# Altium schematic symbol library Nixie.SCHLIB: 55 symbols
Pins are listed as number, name and electrical type; pins without a type are passive.

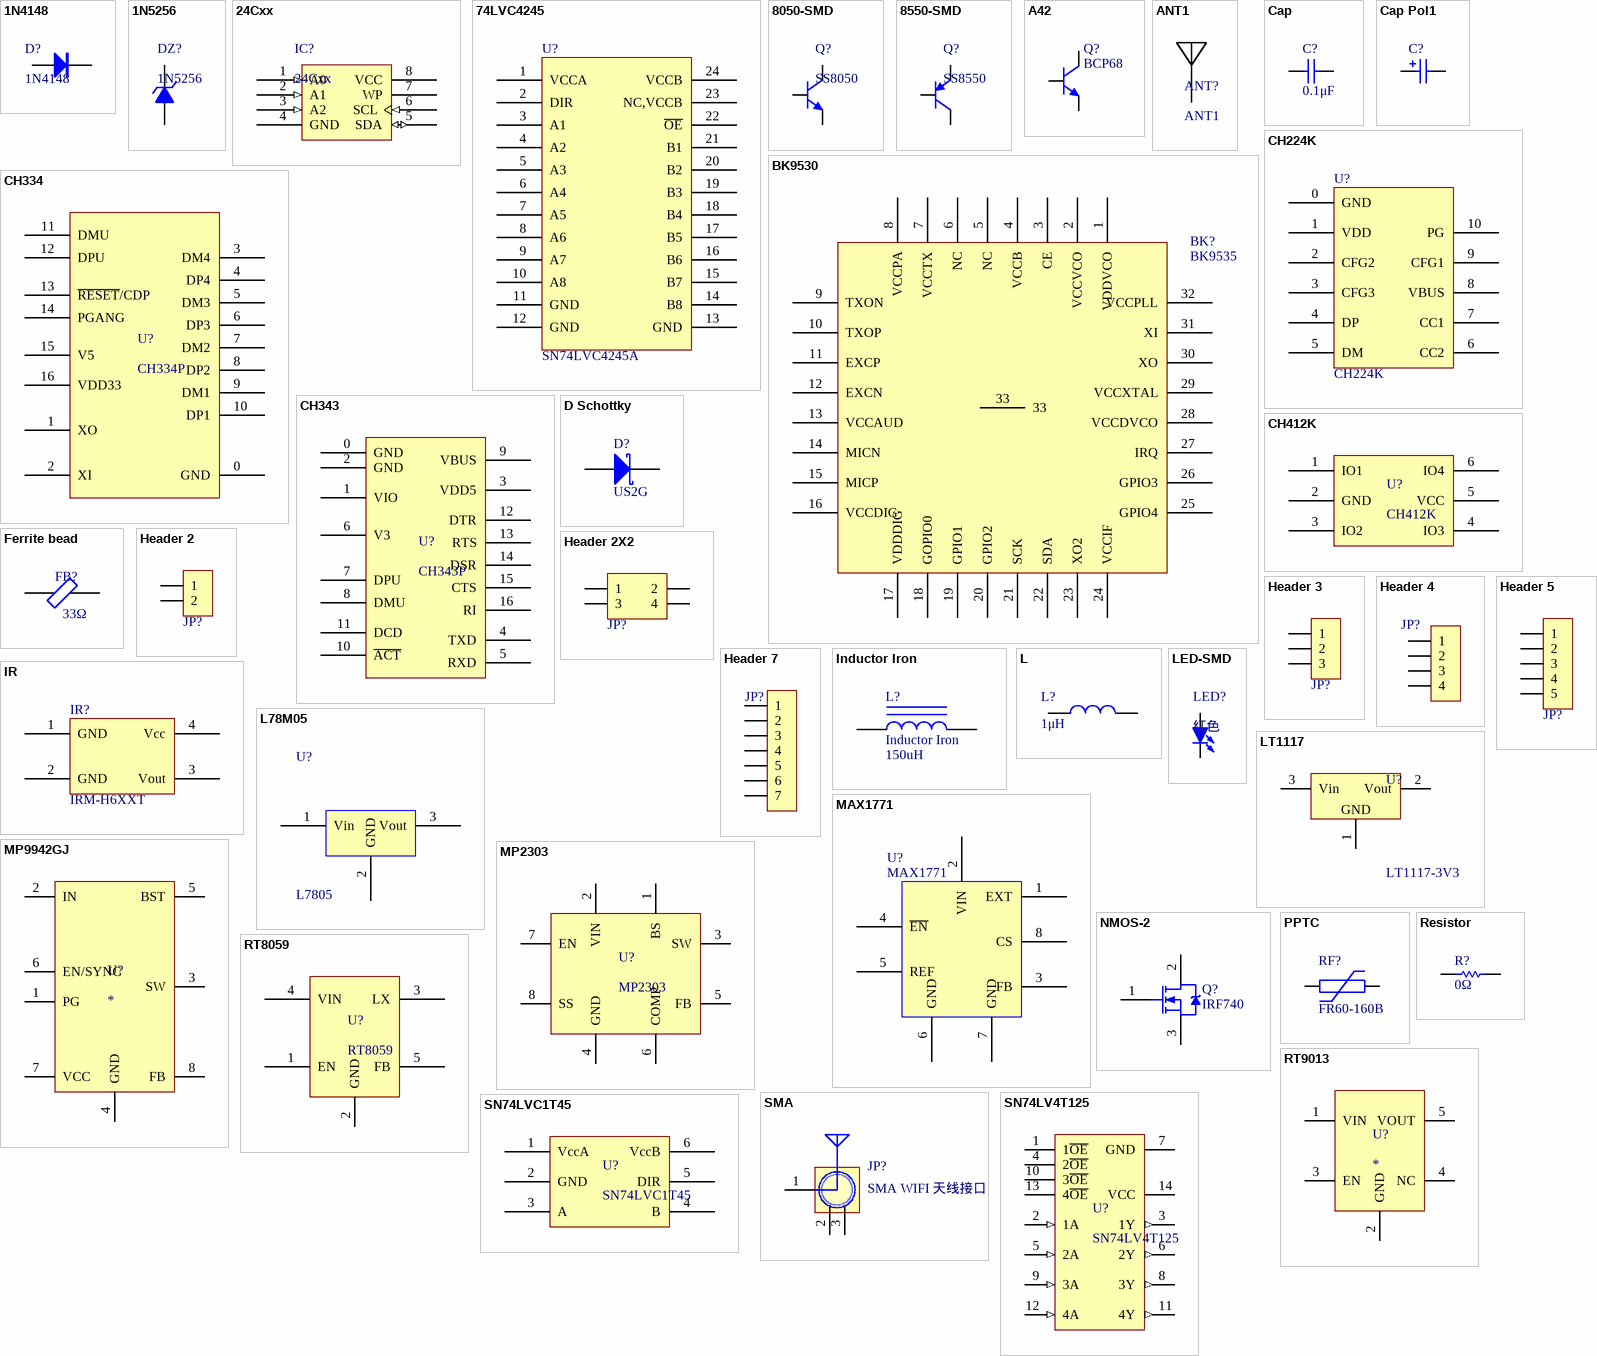
[diagram p0: symbols 1N4148 to SN74LVC1T45]

## 1N4148
designator D?
开关二极管; BOM名称: 高速开关二极管; 淘宝ID: 封装库来自淘宝 ID：黄晶宝石; 欢迎光临: https://shop463601444.taobao.com
footprint DO-35 (1.8*6.8mm(直径，脚距）)
footprint MINI_MELF (LL34) (1.5*3.4mm(直径，脚距）)
footprint SOD-323 (1.8x1.3X0.9mm（长宽高，不包括引脚）)
footprint DO-35V (1.8*2.5mm(直径，脚距）)
pins: 1 A, 2 K

## 1N5256
designator DZ?
30V/0.5W稳压管; 版权归属: 封装库来自淘宝 ID：黄晶宝石; BOM名称: 30V/0.5W稳压管; 学习资源: www.ooocke.com
footprint DO-35 (1.8*6.8mm(直径，脚距）)
footprint DO-213AA (1.5*3.5mm(直径，脚距）)
footprint DO-35V (1.8*2.5mm(直径，脚距）)
footprint LL-34
pins: 1 A, 2 K

## 24Cxx
designator IC?
外置EEPROM; 版权归属: 封装库来自淘宝 ID：黄晶宝石; BOM名称: 外置EEPROM; 唯一出售店铺网址: https://shop463601444.taobao.com
footprint SOP8_L (5*6*1.8mm（长宽高）)
footprint SOP8_N (5*6*1.8mm（长宽高）)
footprint SOP8_M (5*6*1.8mm（长宽高）)
pins: 1 A0 (in), 2 A1 (in), 3 A2 (in), 4 GND, 5 SDA (io), 6 SCL (in), 7 WP, 8 VCC (power)

## 74LVC4245
designator U?, comment SN74LVC4245A
双向电平转换
footprint TSSOP24_L (7.8*6.4*1mm（长宽高） 封装库来自淘宝卖家 ID：黄晶宝石)
pins: 1 VCCA, 2 DIR, 3 A1, 4 A2, 5 A3, 6 A4, 7 A5, 8 A6, 9 A7, 10 A8, 11 GND, 12 GND, 13 GND, 14 B8, 15 B7, 16 B6, 17 B5, 18 B4, 19 B3, 20 B2, 21 B1, 22 ~{OE}, 23 NC,VCCB, 24 VCCB

## 8050-SMD
designator Q?, comment SS8050
高频放大-NPN型; 版权归属: 封装库来自淘宝 ID：黄晶宝石; 属性: 40V 1.5A 1W 100MHZ; BOM名称: 高频放大-NPN型; 联系售后: https://shop463601444.taobao.com
footprint SOT23-3N (3x1.3x1mm(长宽高))
footprint SOT23-3L (3x1.3x1mm(长宽高))
footprint SOT23-3M (3x1.3x1mm(长宽高))
pins: 1 B, 2 E, 3 C

## 8550-SMD
designator Q?, comment SS8550
高频放大-PNP型; 版权归属: 封装库来自淘宝 ID：黄晶宝石; 属性: 40V 1.5A 1W 100MHZ; BOM名称: 高频放大-PNP型; 学习资源: www.ooocke.com
footprint SOT23-3N (3x1.3x1mm(长宽高))
footprint SOT23-3L (3x1.3x1mm(长宽高))
footprint SOT23-3M (3x1.3x1mm(长宽高))
pins: 1 B, 2 E, 3 C

## A42
designator Q?, comment BCP68
NPN高压三极管; Published: 17-Sep-2003; LatestRevisionDate: 12-Dec-2006; LatestRevisionNote: IPC-7351 Footprint Added.; DatasheetVersion: 8-Apr-1999; PackageVersion: Aug-2001; PackageReference: SOT223; Publisher: Altium Limited; PackageDescription: 4-Pin SOT-223 Package 2.3 mm Pitch, 7 mm Lead Span; ComponentLink1Description: Manufacturer Link; ComponentLink1URL: http://www.semiconductors.philips.com/; ComponentLink2Description: Datasheet; ComponentLink2URL: http://www.semiconductors.philips.com/acrobat/datasheets/BCP68_4.pdf
footprint SOT23-3L (3x1.3x1mm(长宽高)    封装库来自淘宝卖家 ID：黄晶宝石)
pins: 1 B, 2 E, 3 C

## ANT1
designator ANT?
PCB板载天线; 版权归属: 封装库来自淘宝 ID：黄晶宝石; BOM名称: PCB板载天线; 技术支持，联系售后: https://shop463601444.taobao.com
footprint 2.4GANTF0
footprint 2.4GANTF1
footprint 2.4GANTF2
footprint 2.4GANTF3
footprint 2.4GANTF4
footprint 2.4GANTS0
footprint 2.4GANTS8
footprint 2.4GANTS9
footprint WIFI-ANT
pins: 1

## BK9530
designator BK?, comment BK9535
footprint QFN32 5x5_L (32脚，长x宽x高：5x5x0.95mm，脚距：0.5mm)
footprint QFN32 5x5_M (32脚，长x宽x高：5x5x0.95mm，脚距：0.5mm)
footprint QFN32 5x5_N (32脚，长x宽x高：5x5x0.95mm，脚距：0.5mm)
pins: 1 VDDVCO, 2 VCCVCO, 3 CE, 4 VCCB, 5 NC, 6 NC, 7 VCCTX, 8 VCCPA, 9 TXON, 10 TXOP, 11 EXCP, 12 EXCN, 13 VCCAUD, 14 MICN, 15 MICP, 16 VCCDIG, 17 VDDDIG, 18 GOPIO0, 19 GPIO1, 20 GPIO2, 21 SCK, 22 SDA, 23 XO2, 24 VCCIF, 25 GPIO4, 26 GPIO3, 27 IRQ, 28 VCCDVCO, 29 VCCXTAL, 30 XO, 31 XI, 32 VCCPLL, 33

## Cap
designator C?  value 0.1μF  (hidden comment: Cap)
Capacitor; Published: 8-Jun-2000; LatestRevisionDate: 17-Jul-2002; LatestRevisionNote: Re-released for DXP Platform.; PackageReference: RAD-0.3; Publisher: Altium Limited; PackageDescription: Radial Cap, Thru-Hole; 2 Leads; 0.3 in Pin Spacing
footprint C 0805_L (无极性贴片电容                                        淘宝ID:黄晶宝石)
footprint C 0603_L (无极性贴片电容                                       淘宝ID:黄晶宝石)
footprint C 1206_L (无极性贴片电容)
footprint C 1210_L (无极性贴片电容                                淘宝ID:黄晶宝石)
pins: 1, 2

## Cap Pol1
designator C?  (value not drawn)
Polarized Capacitor (Radial); Published: 8-Jun-2000; LatestRevisionDate: 17-Jul-2002; LatestRevisionNote: Re-released for DXP Platform.; PackageReference: RB7.6-15; Publisher: Altium Limited
footprint CD C(6032) (长6.0mm，宽3.2mm，厚2.5mm      淘宝ID:黄晶宝石)
footprint CM B(4*5.4) (贴片电解电容，直径4mm，高5.4mm          淘宝ID:黄晶宝石)
footprint CD B(3528) (长3.5mm，宽2.8mm，厚1.9mm      淘宝ID:黄晶宝石)
footprint CM C(5*5.4) (贴片电解电容，直径5mm，高5.4mm            淘宝ID:黄晶宝石)
footprint CM D(6.3*7.7) (贴片电解电容，直径6.3mm，高7.7mm         淘宝ID:黄晶宝石)
footprint CM E(8*10.2) (贴片电解电容，直径8mm，高10.2mm)
footprint CM F(10*10.2) (贴片电解电容，直径10mm，高10.2mm)
pins: 1, 2
1 alternate drawing of the same symbol

## CH224K
designator U?
PD协议受电芯片
footprint ESSOP10 (ESSOP3.9mm)
pins: 0 GND, 1 VDD, 2 CFG2, 3 CFG3, 4 DP, 5 DM, 6 CC2, 7 CC1, 8 VBUS, 9 CFG1, 10 PG

## CH334
designator U?, comment CH334P
4路usb_hub
footprint QFN16 (3mm*3mm 封装库来自淘宝卖家 ID：黄晶宝石)
pins: 0 GND, 1 XO, 2 XI, 3 DM4, 4 DP4, 5 DM3, 6 DP3, 7 DM2, 8 DP2, 9 DM1, 10 DP1, 11 DMU, 12 DPU, 13 ~{RESET}/CDP, 14 PGANG, 15 V5, 16 VDD33

## CH343
designator U?, comment CH343P
USB转串口
footprint QFN16 (3mm*3mm 封装库来自淘宝卖家 ID：黄晶宝石)
pins: 0 GND, 1 VIO, 2 GND, 3 VDD5, 4 TXD, 5 RXD, 6 V3, 7 DPU, 8 DMU, 9 VBUS, 10 ~{ACT}, 11 DCD, 12 DTR, 13 RTS, 14 DSR, 15 CTS, 16 RI

## CH412K
designator U?
四路ESD保护
footprint SOT-363
pins: 1 IO1, 2 GND, 3 IO2, 4 IO3, 5 VCC, 6 IO4

## D Schottky
designator D?, comment US2G
Schottky Diode; Published: 8-Jun-2000; LatestRevisionDate: 17-Jul-2002; LatestRevisionNote: Re-released for DXP Platform.; PackageReference: SMB; Publisher: Altium Limited; PackageDescription: DO-214-AA/SMB; 2 C-Bend Leads; Body 5.3 x 3.6 mm, inc. leads (LxW); Code_JEDEC: DO-214-AA
simulation model SKYDIODE (Diode)
signal-integrity model D Schottky
footprint SMA (4.5x2.6*2.2mm（长宽高，不包括引脚）)
pins: 1 A, 2 K

## Ferrite bead
designator FB?  value 33Ω  (hidden comment: *)
铁氧体磁珠
footprint C 0805_L (无极性贴片电容                                        淘宝ID:黄晶宝石)
footprint C 0603_L (无极性贴片电容                                       淘宝ID:黄晶宝石)
footprint C 1206_L (无极性贴片电容)
pins: 1, 2

## Header 2
designator JP?, comment HDR-1X2  (value not drawn)
2P接插件; 版权归属: 封装库来自淘宝 ID：黄晶宝石; BOM名称: 2P接插件; 联系售后: https://shop463601444.taobao.com
footprint HDR2.54-LI-2P (排针，2脚)
footprint HDR2.54-M-LI-2P (排母，2脚)
footprint HDR2.54-WI-2P (弯脚排针，2脚)
footprint HDR2.54-WS-2P (2P卧式贴片排针2.54)
footprint HDR2.54-Y-LI-2P (圆孔排母，2脚)
footprint HDR2.54-M-WS-2P (2P卧式贴片排母2.54)
pins: 1, 2

## Header 2X2
designator JP?, comment Header2X2  (value not drawn)
2*2P接插件; 版权归属: 封装库来自淘宝 ID：黄晶宝石; BOM名称: 2*2P接插件; 学习资源: https://shop463601444.taobao.com
footprint HDR2.54-LI-2x2P (双排排针，2x2脚)
footprint HDR2.54-M-LS-2x2P (脚距：2.54mm，贴片双排母)
footprint HDR2.54-WI-2x2P (双排弯脚排针，2x2脚)
pins: 1, 2, 3, 4

## Header 3
designator JP?, comment HDR-1X3  (value not drawn)
3P接插件; 版权归属: 封装库来自淘宝 ID：黄晶宝石; BOM名称: 3P接插件; 学习资源: https://shop463601444.taobao.com
footprint HDR2.54-LI-3P (排针，3脚)
pins: 1, 2, 3

## Header 4
designator JP?, comment HDR-1X4  (value not drawn)
4P接插件; 版权归属: 封装库来自淘宝 ID：黄晶宝石; BOM名称: 4P接插件; 学习资源: https://shop463601444.taobao.com
footprint XH2.54-WI-4P (接插件，4P)
footprint XH2.54-LI-4P (接插件，4P)
footprint HDR2.54-LI-4P (排针，4脚)
footprint HDR2.54-M-LI-4P (排母，4脚)
footprint HDR2.54-WI-4P (弯脚排针，4脚)
footprint HDR2.54-WS-4P (4P卧式贴片排针2.54)
footprint HDR2.54-Y-LI-4P (圆孔排母，4脚)
footprint HDR2.54-M-WS-4P (4P卧式贴片排母2.54)
footprint KF2510-LI-4P (接插件/2A)
footprint XH2.54-WS-4P (长：15mm，宽：8mm，高：6.1mm)
footprint XH2.54-LS-4P (长：15mm，宽：6mm，高：8.3mm)
footprint KF2EDGK-2.54-LI-4P (长：12.06mm，宽：8.1mm，高：10.1mm)
footprint KF2EDGK-2.54-WI-4P (长：12.06mm，宽：10.1mm，高：8.1mm)
pins: 1, 2, 3, 4

## Header 5
designator JP?, comment HDR-1X5  (value not drawn)
5P接插件; 版权归属: 封装库来自淘宝 ID：黄晶宝石; BOM名称: 5P接插件; 学习资源: https://shop463601444.taobao.com
footprint HDR2.54-LI-5P (排针，5脚)
footprint HDR2.54-M-LI-5P (排母，5脚)
footprint HDR2.54-WI-5P (弯脚排针，5脚)
footprint HDR2.54-WS-5P (5P卧式贴片排针2.54)
footprint HDR2.54-Y-LI-5P (圆孔排母，5脚)
footprint HDR2.54-M-WS-5P (5P卧式贴片排母2.54)
footprint XH2.54-LI-5P (接插件，5P  淘宝ID:黄晶宝石   店铺网址:https://shop463601444.taobao.com)
footprint HDR2.0-LI-5P (直插，脚距：2.0mm)
pins: 1, 2, 3, 4, 5

## Header 7
designator JP?, comment HDR-1X7  (value not drawn)
7P接插件; 版权归属: 封装库来自淘宝 ID：黄晶宝石; BOM名称: 7P接插件; 学习资源: https://shop463601444.taobao.com
footprint HDR2.54-LI-7P (排针，8脚)
pins: 1, 2, 3, 4, 5, 6, 7

## Inductor Iron
designator L?  value 150uH
Magnetic-Core Inductor; Published: 24-Mar-1999; LatestRevisionDate: 17-Jul-2002; LatestRevisionNote: Re-released for DXP Platform.; PackageReference: AXIAL-0.9; Publisher: Altium Limited; PackageDescription: Axial Device, Thru-Hole; 2 Leads; 0.9 in Pin Spacing
simulation model INDUCTOR (Inductor)
signal-integrity model Inductor Iron
footprint CDRH127 (12*12*8mm（长宽高）)
footprint CKST0603 (7.4*6.4*3mm（长宽高）)
pins: 1, 2

## IR
designator IR?, comment IRM-H6XXT
footprint SMD4_IR
pins: 1 GND, 2 GND, 3 Vout, 4 Vcc

## L
designator L?  value 1μH
小功率贴片电感; 淘宝ID: 封装库来自淘宝 ID：黄晶宝石; 封装库来自淘宝卖家 ID：黄晶宝石: 其他店铺购入均为盗版，不享受售后技术支持服务，请立即申请退款; BOM名称: 小功率贴片电感; 联系售后: https://shop463601444.taobao.com
footprint L 0402 (小功率贴片电感)
footprint L 0603 (小功率贴片电感)
footprint L 0805 (小功率贴片电感)
footprint L 1206 (小功率贴片电感)
footprint L 1210 (小功率贴片电感)
footprint L 1806 (小功率贴片电感)
footprint L 1812 (小功率贴片电感)
pins: 1, 2

## L78M05
designator U?, comment L7805
footprint TO-252-2L
pins: 1 Vin, 2 GND, 3 Vout

## LED-SMD
designator LED?, comment 红色
贴片LED; 版权归属: 封装库来自淘宝 ID：黄晶宝石; BOM名称: 贴片LED; 学习资源: https://shop463601444.taobao.com
footprint LED 0603W (白色0603LED)
footprint LED 0603R (红色0603LED)
footprint LED 0603B (蓝色0603LED)
footprint LED 0603G (绿色0603LED)
footprint LED 0603Y (黄色0603LED)
footprint LED 0805G (绿色0805LED)
footprint LED 0805R (红色0805LED)
footprint LED 0805B (蓝色0805LED)
footprint LED 0805Y (黄色0805LED)
footprint LED 3528-2Pin (2脚，3528LED)
footprint LED 1206G (绿色1206LED)
footprint LED 5730-V (紫色5730LED)
footprint LED 1206Y (黄色1206LED)
footprint LED 0805W (白色0805LED)
footprint LED 1206B (蓝色1206LED)
footprint LED 1206W (白色1206LED)
footprint LED 1206R (红色1206LED)
pins: 1 A, 2 K

## LT1117
designator U?, comment LT1117-3V3
三端稳压芯片; BOM名称: 稳压芯片; 版权归属: 源创客; 学习资源: www.ooocke.com
footprint SOT223_L (6.4x7x1.6mm(长宽高))
pins: 1 GND, 2 Vout, 3 Vin

## MAX1771
designator U?
footprint SOIC8
pins: 1 EXT, 2 VIN, 3 FB, 4 ~{EN}, 5 REF, 6 GND, 7 GND, 8 CS

## MP2303
designator U?
DC-DC降压芯片。4.75V-28V，3A
footprint SOIC8E
pins: 1 BS, 2 VIN, 3 SW, 4 GND, 5 FB, 6 COMP, 7 EN, 8 SS, 9 GND hidden

## MP9942GJ
designator U?
MP9942GJ 4.7V-36V 2A DCDC
footprint TSOT23-8
pins: 1 PG, 2 IN, 3 SW, 4 GND, 5 BST, 6 EN/SYNC, 7 VCC, 8 FB

## NMOS-2
designator Q?, comment IRF740
N-Channel Power MOSFET; Note: Pin 2 is electrically connected to pin 4.; Published: 8-Jun-2000; LatestRevisionDate: 17-Jul-2002; LatestRevisionNote: Re-released for DXP Platform.; DatasheetVersion: PD-9.814; PackageVersion: Feb-1997; PackageReference: TO-220AB; Publisher: Altium Limited; PackageDescription: TO, Thru-Hole, Vertical, Heatsink Mounted; 3 In-Line Leads; Pitch 2.54 mm; ComponentLink1Description: Manufacturer Link; ComponentLink1URL: http://www.irf.com/
footprint TO-263-2L
simulation model IRF1010 (Spice Subcircuit)
pins: 1 G, 2 D, 3 S

## PPTC
designator RF?, comment FR60-160B
PPTC自恢复保险丝; 版权归属: 封装库来自淘宝卖家 ID：黄晶宝石; BOM名称: PPTC自恢复保险丝; 学习资源: https://shop463601444.taobao.com
footprint FU 1206 (贴片保险丝)
pins: 1, 2

## Resistor
designator R?  value 0Ω  (hidden comment: Resistor)
Published: 8-Jun-2000; LatestRevisionDate: 17-Jul-2002; LatestRevisionNote: Re-released for DXP Platform.; PackageReference: AXIAL-0.5; Publisher: Altium Limited
footprint R 0805_L (1/8W贴片电阻)
footprint R 0603_L (1/10W贴片电阻                 淘宝ID:黄晶宝石)
footprint R 1206_L (1/4W贴片电阻)
footprint R 1210_L (1/3W贴片电阻                                淘宝ID:黄晶宝石)
pins: 1, 2

## RT8059
designator U?
DC-DC, 2.8-5.5V,1A
footprint SOT23-5L (3x1.6x1.1mm(长宽高) 封装库来自淘宝卖家 ID：黄晶宝石)
pins: 1 EN, 2 GND, 3 LX, 4 VIN, 5 FB

## RT9013
designator U?
LDO
footprint SOT23-5L (3x1.6x1.1mm(长宽高) 封装库来自淘宝卖家 ID：黄晶宝石)
pins: 1 VIN, 2 GND, 3 EN, 4 NC, 5 VOUT

## SMA
designator JP?, comment SMA WIFI 天线接口
SMA-2.4G射频天线接口; 版权归属: 封装库来自淘宝 ID：黄晶宝石; BOM名称: SMA-2.4G射频天线接口; 唯一出售店铺网址: https://shop463601444.taobao.com
footprint SMA_FR
footprint SMA-KE (Footprint not found)
footprint SMA-KE-LI (SMA 立式直插射频天线座)
footprint COAXIAL/SMD/CON/V/I-PEX/W08-5801 (https://shop463601444.taobao.com)
pins: 1 ANT, 2 GND, 3 GND

## SN74LV4T125
designator U?
单电源4路逻辑电平转换
footprint TSSOP14_L (5*6.4*1mm（长宽高）封装库来自淘宝卖家 ID：黄晶宝石)
pins: 1 1~{OE}, 2 1A (in), 3 1Y (out), 4 2~{OE}, 5 2A (in), 6 2Y (out), 7 GND, 8 3Y (out), 9 3A (in), 10 3~{OE}, 11 4Y (out), 12 4A (in), 13 4~{OE}, 14 VCC

## SN74LVC1T45
designator U?
单路逻辑电平转换
footprint SOT23-6L (3x1.6x1.1mm(长宽高) 封装库来自淘宝卖家 ID：黄晶宝石)
pins: 1 VccA, 2 GND, 3 A, 4 B, 5 DIR, 6 VccB

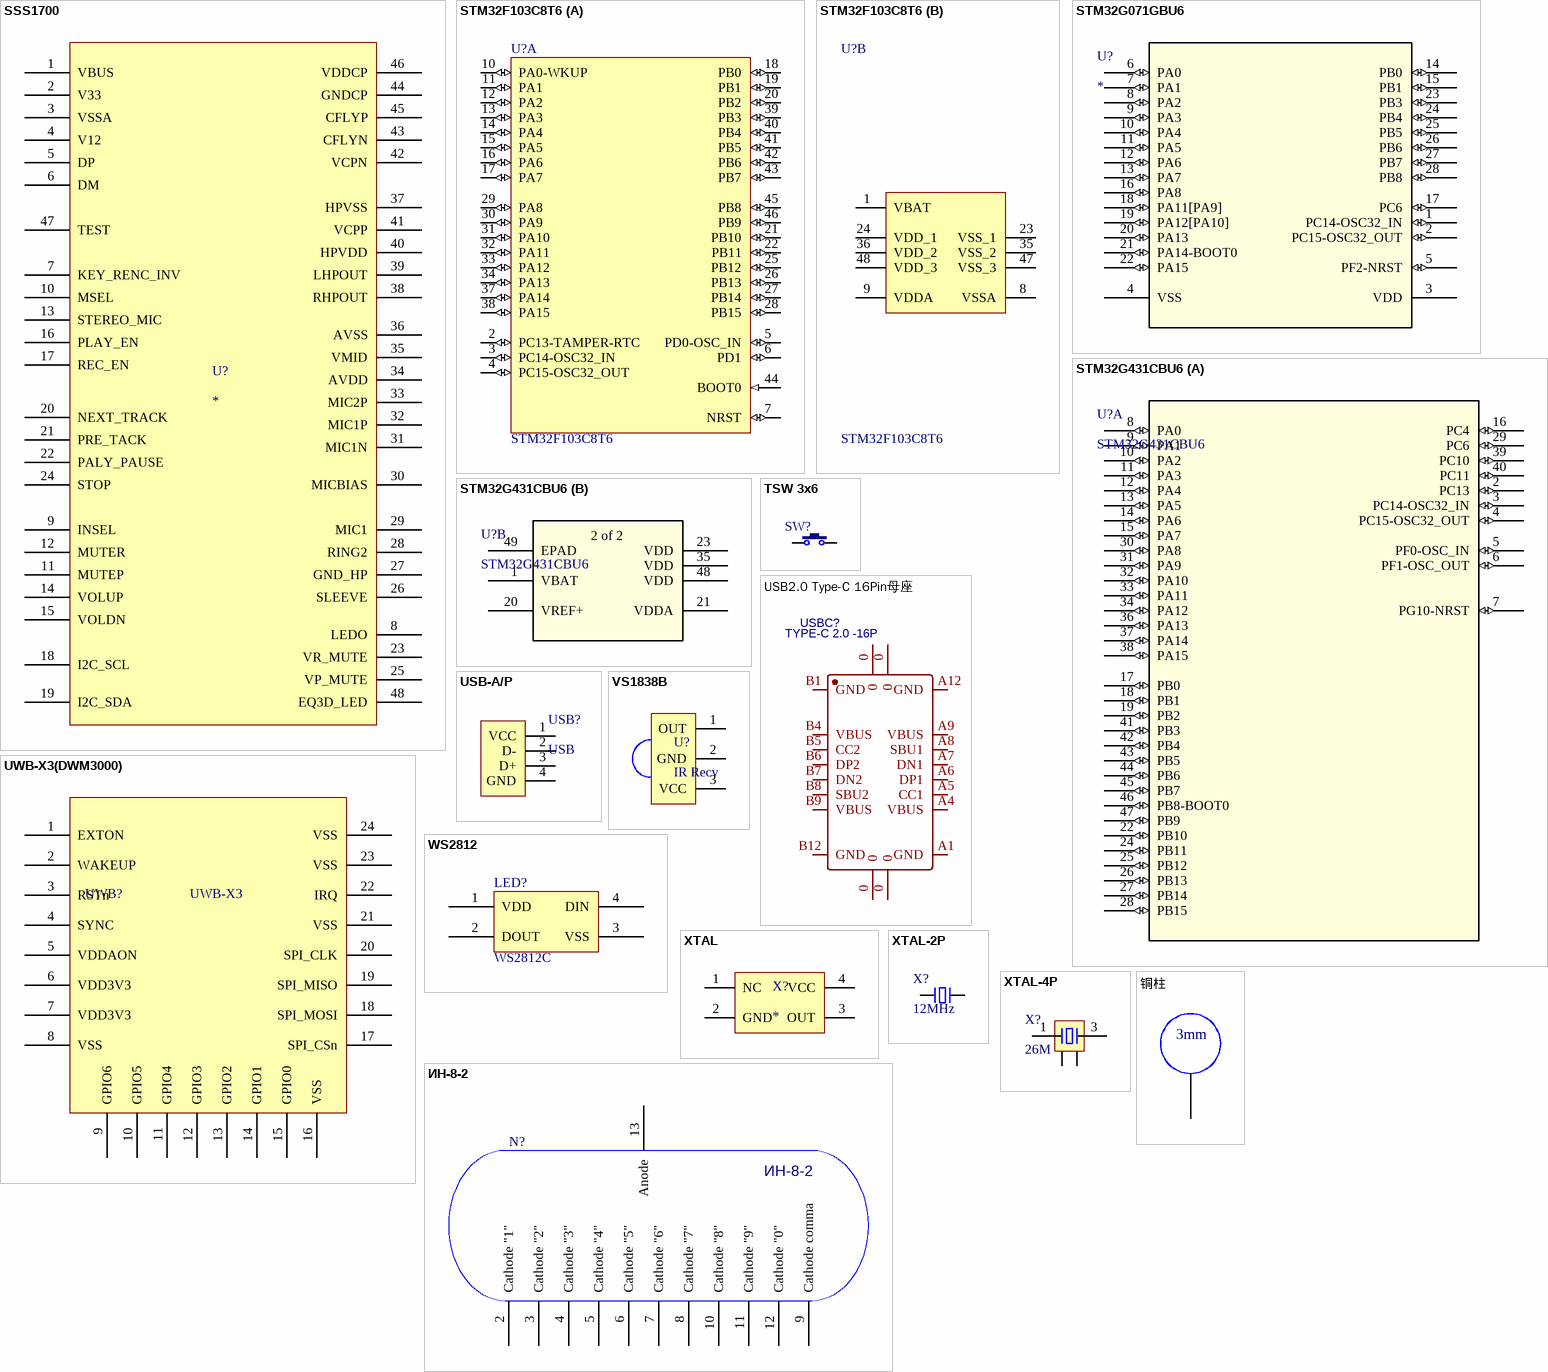
[diagram p1: symbols SSS1700 to 铜柱]

## SSS1700
designator U?
USB音频芯片
footprint LQFP48_L (封装库来自淘宝 ID：黄晶宝石 Thin QFP, 48-Leads, Body 7x7mm, Pitch 0.5mm, IPC High Density)
pins: 1 VBUS, 2 V33, 3 VSSA, 4 V12, 5 DP, 6 DM, 7 KEY_RENC_INV, 8 LEDO, 9 INSEL, 10 MSEL, 11 MUTEP, 12 MUTER, 13 STEREO_MIC, 14 VOLUP, 15 VOLDN, 16 PLAY_EN, 17 REC_EN, 18 I2C_SCL, 19 I2C_SDA, 20 NEXT_TRACK, 21 PRE_TACK, 22 PALY_PAUSE, 23 VR_MUTE, 24 STOP, 25 VP_MUTE, 26 SLEEVE, 27 GND_HP, 28 RING2, 29 MIC1, 30 MICBIAS, 31 MIC1N, 32 MIC1P, 33 MIC2P, 34 AVDD, 35 VMID, 36 AVSS, 37 HPVSS, 38 RHPOUT, 39 LHPOUT, 40 HPVDD, 41 VCPP, 42 VCPN, 43 CFLYN, 44 GNDCP, 45 CFLYP, 46 VDDCP, 47 TEST, 48 EQ3D_LED

## STM32F103C8T6
designator U?
ARM; ComponentLink1Description: 供应商链接; ComponentLink1URL: http://www.szlcsc.com/product/details_9243.html; Package: LQFP-48_7x7x05P; Supplier: LC; SuppliersPartNumber: C8734
footprint LQFP48_L (封装库来自淘宝 ID：黄晶宝石 Thin QFP, 48-Leads, Body 7x7mm, Pitch 0.5mm, IPC High Density)
part A pins: 2 PC13-TAMPER-RTC (io), 3 PC14-OSC32_IN (io), 4 PC15-OSC32_OUT (io), 5 PD0-OSC_IN (io), 6 PD1 (io), 7 NRST (io), 10 PA0-WKUP (io), 11 PA1 (io), 12 PA2 (io), 13 PA3 (io), 14 PA4 (io), 15 PA5 (io), 16 PA6 (io), 17 PA7 (io), 18 PB0 (io), 19 PB1 (io), 20 PB2 (io), 21 PB10 (io), 22 PB11 (io), 25 PB12 (io), 26 PB13 (io), 27 PB14 (io), 28 PB15 (io), 29 PA8 (io), 30 PA9 (io), 31 PA10 (io), 32 PA11 (io), 33 PA12 (io), 34 PA13 (io), 37 PA14 (io), 38 PA15 (io), 39 PB3 (io), 40 PB4 (io), 41 PB5 (io), 42 PB6 (io), 43 PB7 (io), 44 BOOT0 (in), 45 PB8 (io), 46 PB9 (io)
part B pins: 1 VBAT (power), 8 VSSA (power), 9 VDDA (power), 23 VSS_1 (power), 24 VDD_1 (power), 35 VSS_2 (power), 36 VDD_2 (power), 47 VSS_3 (power), 48 VDD_3 (power)

## STM32G071GBU6
designator U?
No Description Available; Mfr_Name: STMicroelectronics; RefDes: RefDes; Type: Type
footprint UFQFPN-28
pins: 1 PC14-OSC32_IN (io), 2 PC15-OSC32_OUT (io), 3 VDD (power), 4 VSS (power), 5 PF2-NRST (io), 6 PA0 (io), 7 PA1 (io), 8 PA2 (io), 9 PA3 (io), 10 PA4 (io), 11 PA5 (io), 12 PA6 (io), 13 PA7 (io), 14 PB0 (io), 15 PB1 (io), 16 PA8 (io), 17 PC6 (io), 18 PA11[PA9] (io), 19 PA12[PA10] (io), 20 PA13 (io), 21 PA14-BOOT0 (io), 22 PA15 (io), 23 PB3 (io), 24 PB4 (io), 25 PB5 (io), 26 PB6 (io), 27 PB7 (io), 28 PB8 (io)

## STM32G431CBU6
designator U?
No Description Available; Mfr_Name: STMicroelectronics; Copyright: Copyright (C) 2023 Ultra Librarian. All rights reserved.; Manufacturer_Part_Number: STM32G431CBU6; RefDes: RefDes; Type: DEV
footprint UFQFPN-48_7X7X0P55MM
part A pins: 2 PC13 (io), 3 PC14-OSC32_IN (io), 4 PC15-OSC32_OUT (io), 5 PF0-OSC_IN (io), 6 PF1-OSC_OUT (io), 7 PG10-NRST (io), 8 PA0 (io), 9 PA1 (io), 10 PA2 (io), 11 PA3 (io), 12 PA4 (io), 13 PA5 (io), 14 PA6 (io), 15 PA7 (io), 16 PC4 (io), 17 PB0 (io), 18 PB1 (io), 19 PB2 (io), 22 PB10 (io), 24 PB11 (io), 25 PB12 (io), 26 PB13 (io), 27 PB14 (io), 28 PB15 (io), 29 PC6 (io), 30 PA8 (io), 31 PA9 (io), 32 PA10 (io), 33 PA11 (io), 34 PA12 (io), 36 PA13 (io), 37 PA14 (io), 38 PA15 (io), 39 PC10 (io), 40 PC11 (io), 41 PB3 (io), 42 PB4 (io), 43 PB5 (io), 44 PB6 (io), 45 PB7 (io), 46 PB8-BOOT0 (io), 47 PB9 (io)
part B pins: 1 VBAT (power), 20 VREF+ (power), 21 VDDA (power), 23 VDD (power), 35 VDD (power), 48 VDD (power), 49 EPAD
part B text: 2 of 2

## TSW 3x6
designator SW?, comment 3x6x5  (value not drawn)
3x6轻触开关; 版权归属: 封装库来自淘宝 ID：黄晶宝石; BOM名称: 3x6轻触开关; 学习资源: https://shop463601444.taobao.com
footprint TSW SMD-3*6*2.5 (3*6*2.5mm)
footprint TSW DIP-3*6*5_V (侧按轻触开关 3*6*5mm)
footprint TSW DIP-3*6*4.3 (3*6*4.3mm)
footprint TSW DIP-3*6*4.3_V (侧按轻触开关 3*6*4.3mm)
footprint TSW DIP-3*6*5 (3*6*5mm)
footprint TSW SMD-3*6*4.3 (3*6*4.3mm)
footprint TSW SMD-3*6*5 (3*6*5mm)
footprint TSW 3*6*4.3-S-W (侧立贴片3*6*4.3)
pins: 1, 2

## USB2.0 Type-C 16Pin母座
designator USBC?, comment TYPE-C 2.0 -16P
USB2.0 Type-C 母座 16Pin; BOM_Manufacturer: LCSC; BOM_Supplier: LCSC; BOM_Manufacturer Part: -; spicePre: U; spiceSymbolName: TYPE-C 3.1 -16P_C168689
footprint USB-C-SMD_TYPE-C-USB-5
pins: 0, 0, 0, 0, A1 GND, A4 VBUS, A5 CC1, A6 DP1, A7 DN1, A8 SBU1, A9 VBUS, A12 GND, B1 GND, B4 VBUS, B5 CC2, B6 DP2, B7 DN2, B8 SBU2, B9 VBUS, B12 GND

## USB-A/P
designator USB?, comment USB
USB-A型公接口; 版权归属: 封装库来自淘宝卖家 ID：黄晶宝石; BOM名称: USB-A型公接口; 学习资源: https://shop463601444.taobao.com
footprint USB_A/P_A (A型USB 插头，20*13*4.5mm)
footprint USB_A/P_A (A型USB 插头，20*13*4.5mm)
pins: 1 VCC, 2 D-, 3 D+, 4 GND

## UWB-X3(DWM3000)
designator UWB?, comment UWB-X3
footprint MAX2000
pins: 1 EXTON, 2 WAKEUP, 3 RSTn, 4 SYNC, 5 VDDAON, 6 VDD3V3, 7 VDD3V3, 8 VSS, 9 GPIO6, 10 GPIO5, 11 GPIO4, 12 GPIO3, 13 GPIO2, 14 GPIO1, 15 GPIO0, 16 VSS, 17 SPI_CSn, 18 SPI_MOSI, 19 SPI_MISO, 20 SPI_CLK, 21 VSS, 22 IRQ, 23 VSS, 24 VSS

## VS1838B
designator U?, comment IR Recv
红外接收头
footprint HDR2.54-LI-3P - duplicate (排针，3脚)
pins: 1 OUT, 2 GND, 3 VCC

## WS2812
designator LED?, comment WS2812C
RGB发光管
footprint WS2812
pins: 1 VDD, 2 DOUT, 3 VSS, 4 DIN

## XTAL
designator X?
4脚有源晶振
footprint OSC 3225-4P (3.2*2.5*0.7mm(长宽高)                         淘宝ID:黄晶宝石)
pins: 1 NC, 2 GND, 3 OUT, 4 VCC

## XTAL-2P
designator X?, comment 12MHz
2脚无源脚晶振; 版权归属: 封装库来自淘宝卖家 ID：黄晶宝石; BOM名称: 2脚无源脚晶振; 学习资源: https://shop463601444.taobao.com
footprint OSC HC-49S
footprint OSC 455E-LI (3.6mm*7mm*9mm(长*宽*高)  脚距5mm)
footprint OSC 455E-WI (3.6mm*7mm*9mm(长*宽*高)  脚距5mm)
footprint OSC 3215-2P (3.2*1.5*0.6mm(长宽高))
footprint OSC 5032-2P (5mm*3.2mm*0.8mm(长*宽*高))
footprint OSC 6035-2P (6mm*3.5mm*1mm(长*宽*高))
footprint OSC 7050-2P (7mm*5mm*1.3mm(长*宽*高))
footprint OSC 8045-2P (8mm*4.5mm*1.8mm(长*宽*高))
footprint OSC-2x6-LI (脚距：1.6mm)
footprint OSC-2x6-WI-A (脚距：1.6mm)
footprint OSC-2x6-WI-B (脚距：1.6mm)
footprint OSC-2x6-WS (脚距：1.6mm)
footprint OSC-3x8-LI (脚距：2mm)
footprint OSC-3x8-WI-A (脚距：2mm)
footprint OSC-3x8-WI-B (脚距：2mm)
footprint OSC-3x8-WS (脚距：2mm)
footprint OSC-3x10-LI (脚距：2mm)
footprint OSC-3x10-WI-A (脚距：2mm)
footprint OSC-3x10-WI-B (脚距：2mm)
footprint OSC-3x10-WS (脚距：2mm)
footprint OSC HC-49SMD
footprint OSC HC-49U
footprint OSC UM-1
footprint OSC UM-5
pins: 1, 2

## XTAL-4P
designator X?, comment 26M
4脚无源晶振; 版权归属: 封装库来自淘宝卖家 ID：黄晶宝石; BOM名称: 4脚无源晶振; 学习资源: https://shop463601444.taobao.com
footprint OSC 1612-4P (1.6*1.2*0.35mm（长宽高）)
footprint OSC 2025-4P (2*2.5*0.55mm(长宽高))
footprint OSC 3225-4P (3.2*2.5*0.7mm(长宽高))
footprint OSC 4025-4P (4*2.5*0.7mm(长宽高))
footprint OSC 5032-4P (5mm*3.2mm*0.8mm(长*宽*高))
footprint OSC 6035-4P (6mm*3.5mm*1mm(长*宽*高))
footprint OSC 7050-4P (7mm*5mm*1.3mm(长*宽*高))
footprint OSC 8045-4P (8mm*4.5mm*1.6mm(长*宽*高))
footprint OSC 8045-4P-C (8mm*4.5mm*1.8mm(长*宽*高))
pins: 1, 2, 3, 4

## ИН-8-2
designator N?  (value not drawn)
footprint IN8-2
pins: 2 Cathode "1", 3 Cathode "2", 4 Cathode "3", 5 Cathode "4", 6 Cathode "5", 7 Cathode "6", 8 Cathode "7", 9 Cathode comma, 10 Cathode "8", 11 Cathode "9", 12 Cathode "0", 13 Anode

## 铜柱
designator T?  (value not drawn)
footprint 螺丝孔-3mm
pins: 1
text: 3mm